# Altium schematic symbol library PTN78020W.SchLib: 2 symbols
Pins are listed as number, name and electrical type; pins without a type are passive.

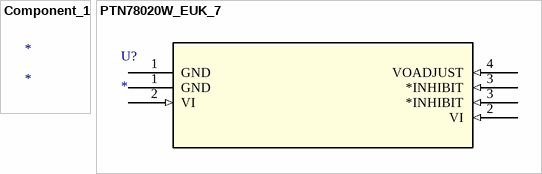
[diagram p0: symbols Component_1 to PTN78020W_EUK_7]

## Component_1
designator *

## PTN78020W_EUK_7
designator U?
Imported; Manufacturer: Texas Instruments; GENERIC_PART_NUMBER: PTN78020W; Manufacturer_Part_Number: ptn78020w_euk_7; INDUSTRY_STD_PKG_TYPE: Through-Hole Module; FAMILY_NAME: NON-ISOLATED POL; PIN_COUNT: 7; PACKAGE_DESIGNATOR: EUK; Datasheet_URL: http://www.ti.com/lit/gpn/PTN78020W; Vendor: Texas Instruments; Value: Value; Type: Type; RefDes: RefDes
footprint EUK7
pins: 1 GND (power), 1 GND (power), 2 VI (in), 2 VI (in), 3 *INHIBIT (in), 3 *INHIBIT (in), 4 VOADJUST (in)